# EAGLE library part MPR121-TOUCH-CONTROLLER (library arducorder-mini)
MPR121 Capacitive Touch Controller
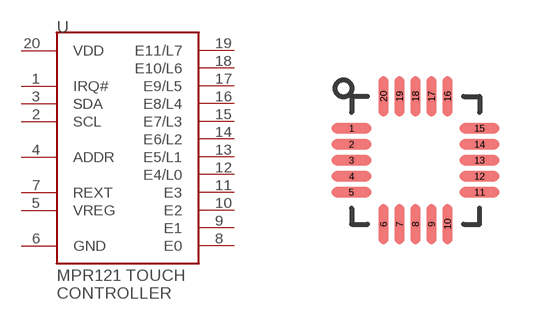
[diagram p5: symbol with the pads of QFN-3X3-20; footprint QFN-3X3-20]

Designator prefix -

## MPR121-TOUCH-CONTROLLER  [QFN-3X3-20]
1  IRQ#
2  SCL
3  SDA
4  ADDR
5  VREG
6  GND
7  REXT
8  E0
9  E1
10  E2
11  E3
12  E4/L0
13  E5/L1
14  E6/L2
15  E7/L3
16  E8/L4
17  E9/L5
18  E10/L6
19  E11/L7
20  VDD

## Footprint QFN-3X3-20 (pad centres in mm)
smd 1 x 0.25: 1 -1.6,0.8; 2 -1.6,0.4; 3 -1.6,0; 4 -1.6,-0.4; 5 -1.6,-0.8; 11 1.6,-0.8; 12 1.6,-0.4; 13 1.6,0; 14 1.6,0.4; 15 1.6,0.8
smd 0.25 x 1: 6 -0.8,-1.6; 7 -0.4,-1.6; 8 0,-1.6; 9 0.4,-1.6; 10 0.8,-1.6; 16 0.8,1.6; 17 0.4,1.6; 18 0,1.6; 19 -0.4,1.6; 20 -0.8,1.6